# EAGLE library part W5500_MODULELITE (library W5500_ModuleLite V2)
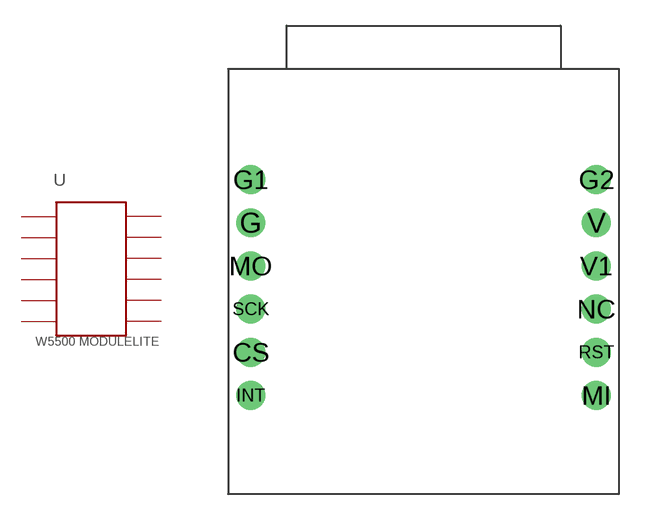
[diagram p0: symbol with the pads of W5500_MODULELITE; footprint W5500_MODULELITE]

Designator prefix -

## W5500_MODULELITE  [W5500_MODULELITE]
CS  CS  pas
G  G  pas
G1  G1  pas
G2  G2  pas
INT  INT  pas
MI  MI  pas
MO  MO  pas
NC  NC  pas
RST  RST  pas
SCK  SCK  pas
V  V  pas
V1  V1  pas

## Footprint W5500_MODULELITE (pad centres in mm)
drill 0.9 pad 1.7: CS 1.34,8.34; G 1.34,15.96; G1 1.34,18.5; G2 21.66,18.5; INT 1.34,5.8; MI 21.66,5.8; MO 1.34,13.42; NC 21.66,10.88; RST 21.66,8.34; SCK 1.34,10.88; V 21.66,15.96; V1 21.66,13.42